# Altium footprint library WateringSystem_Library.PcbLib: 41 footprints (part 3 of 3)
Each footprint in its own frame and in the unit in brackets; x right, y up, seen from the top. Pads: shape width x height; smd on the part's side, far side on the other; paste and mask are expansions set on the pad; w line width, h text height; cw(c..) or ccw(c..) is an arc to the next point about the centre after c.
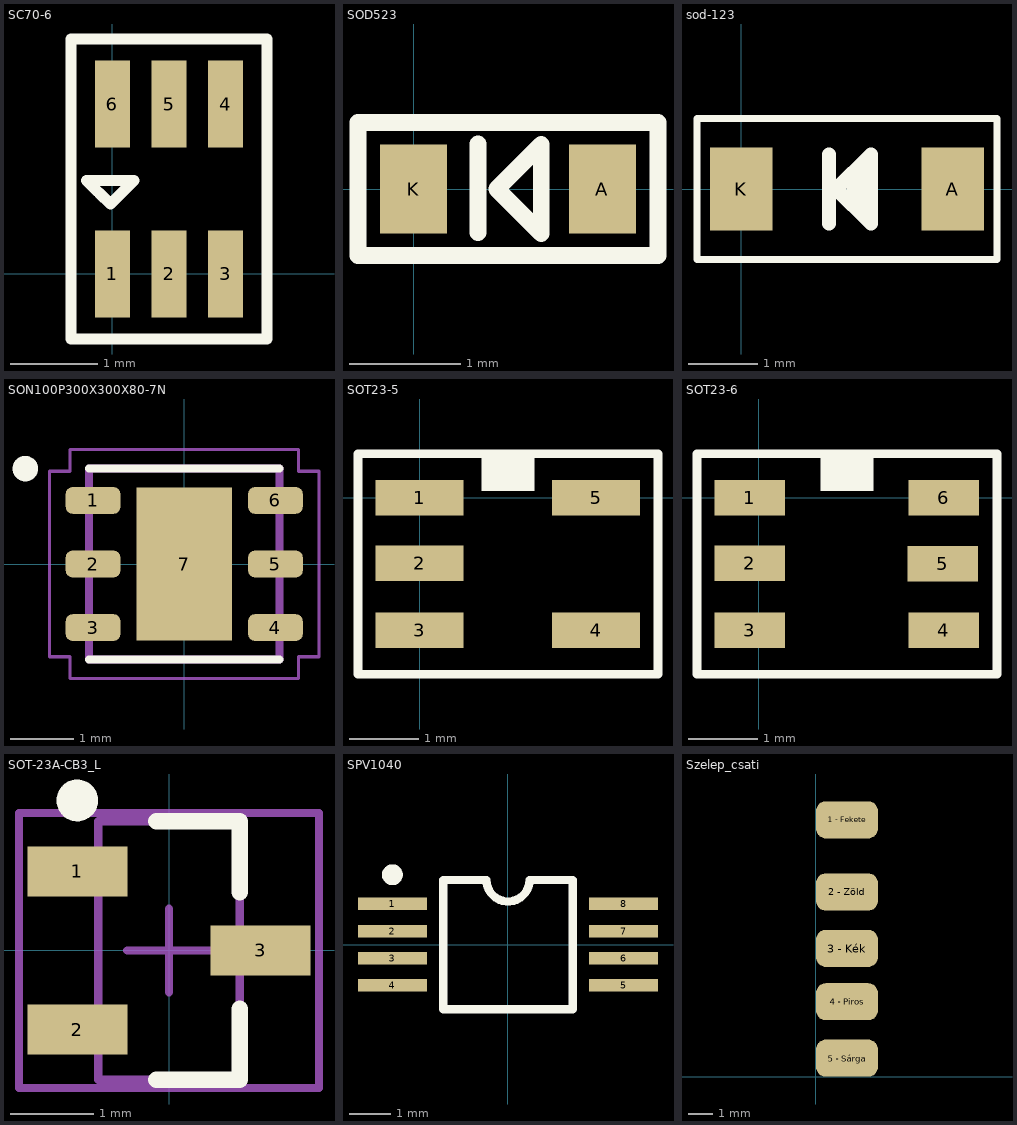
[diagram p2: the footprints below, top view; thin cyan lines are the x and y axes]

## SC70-6 [mm]
pads (6):
  rect 0.4x1 smd mask+0.05: 1(0,0) 2(0.65,0) 3(1.3,0) 4(1.3,1.95) 5(0.65,1.95) 6(0,1.95)
Top Overlay:
  lines w0.127: -0.475,-0.175 -0.475,0.975 ; -0.475,2.125 -0.475,0.975 ; -0.15,0.925 -0.025,0.8 ; 1.775,-0.175 1.775,0.975 ; 1.775,2.125 1.775,0.975 ; -0.475,0.975 -0.475,-0.75 0.65,-0.75 1.775,-0.75 1.775,0.975 ; -0.475,0.975 -0.475,2.7 0.65,2.7 1.775,2.7 1.775,0.975 ; -0.025,0.8 -0.025,0.8 ; -0.025,0.8 0.25,1.075 ; -0.025,0.8 -0.3,1.075 0.25,1.075 ; 0.25,1.075 0.25,1.075
3D body: height 1.04, standoff 1.02, extent -0.126,0.584 0.126,0.838
3D body: height 1.02, standoff 0.13, extent -0.483,0.432 1.778,1.524
3D body: height 0.25, standoff 0, extent -0.152,0 0.152,0.254
3D body: height 0.76, standoff 0, extent -0.152,0.203 0.152,0.305
3D body: height 0.76, standoff 0.51, extent -0.152,0.305 0.152,0.432
3D body: height 0.76, standoff 0.51, extent 0.508,0.305 0.813,0.432
3D body: height 0.76, standoff 0, extent 0.508,0.203 0.813,0.305
3D body: height 0.25, standoff 0, extent 0.508,0 0.813,0.254
3D body: height 0.76, standoff 0.51, extent 1.143,0.305 1.448,0.432
3D body: height 0.76, standoff 0, extent 1.143,0.203 1.448,0.305
3D body: height 0.25, standoff 0, extent 1.143,0 1.448,0.254
3D body: height 0.25, standoff 0, extent -0.152,1.702 0.152,1.956
3D body: height 0.76, standoff 0, extent -0.152,1.651 0.152,1.753
3D body: height 0.76, standoff 0.51, extent -0.152,1.524 0.152,1.651
3D body: height 0.76, standoff 0.51, extent 1.143,1.524 1.448,1.651
3D body: height 0.76, standoff 0, extent 1.143,1.651 1.448,1.753
3D body: height 0.25, standoff 0, extent 1.143,1.702 1.448,1.956
3D body: height 0.25, standoff 0, extent 0.483,1.702 0.787,1.956
3D body: height 0.76, standoff 0, extent 0.483,1.651 0.787,1.753
3D body: height 0.76, standoff 0.51, extent 0.483,1.524 0.787,1.651

## SOD523 [mm]
pads (2):
  rect 0.6x0.8 smd: A(1.7,0) K(0,0)
Top Overlay:
  lines w0.152: 0.581,-0.394 0.581,0.406 ; -0.5,-0.6 2.2,-0.6 2.2,0.6 -0.5,0.6 -0.5,-0.6 ; 0.749,0 1.149,-0.4 1.149,0.4 0.749,0
3D body: height 0.25, standoff 0, extent 1.4,-0.2 1.75,0.15
3D body: height 0.25, standoff 0, extent -0.05,-0.175 0.3,0.175
3D body: height 0.51, standoff 0, extent 0.15,-0.525 1.525,0.55
3D body: height 0.53, standoff 0.51, extent 0.275,-0.475 0.45,0.5

## sod-123 [mm]
pads (2):
  rect 0.9x1.2 smd: A(3.048,0) K(0,0)
Top Overlay:
  lines w0.102: -0.635,-1.016 -0.635,1.016 3.683,1.016 3.683,-1.016 -0.635,-1.016
  lines w0.2: 1.267,-0.5 1.267,0.5 ; 1.617,-0.15 1.617,0.15 ; 1.767,-0.3 1.767,0.3 ; 1.367,0 1.867,-0.5 1.867,0.5 1.367,0
3D body: height 0.7, standoff 0, extent 2.987,-0.225 3.112,0.275
3D body: height 0.7, standoff 0.5, extent 2.9,-0.225 3,0.275
3D body: height 0.2, standoff 0, extent 3.1,-0.225 3.3,0.275
3D body: height 0.76, standoff 0, extent 0.225,-0.875 2.9,0.875
3D body: height 0.2, standoff 0, extent -0.175,-0.25 0.025,0.25
3D body: height 0.7, standoff 0.5, extent 0.125,-0.25 0.225,0.25
3D body: height 0.7, standoff 0, extent 0.013,-0.25 0.138,0.25
3D body: height 0.79, standoff 0.74, extent 0.475,-0.75 0.6,0.75

## SON100P300X300X80-7N [mm]
pads (7):
  rrect50% 0.86x0.42 smd: 1(-1.435,1) 2(-1.435,0) 3(-1.435,-1) 4(1.435,-1) 5(1.435,0) 6(1.435,1)
  rect 1.5x2.4 smd paste-2: 7(0,0)
Top Overlay:
  circle w0.2: c-2.5,1.5 r0.1
  lines w0.127: -1.5,-1.5 1.5,-1.5 ; -1.5,1.5 1.5,1.5
Top Paste:
  region: 0.485,-1.021 -0.485,-1.021 -0.485,-0.09 0.485,-0.09
  region: 0.485,0.09 -0.486,0.09 -0.486,1.02 0.485,1.02
Mechanical 13:
  lines w0.127: -1.5,-1.5 -1.5,1.5 1.5,1.5 1.5,-1.5 -1.5,-1.5
Mechanical 15:
  lines w0.05: -2.12,-1.46 -2.12,1.46 -1.8,1.46 -1.8,1.8 1.8,1.8 1.8,1.46 2.12,1.46 2.12,-1.46 1.8,-1.46 1.8,-1.8 -1.8,-1.8 -1.8,-1.46 -2.12,-1.46

## SOT23-5 [mil]
pads (5):
  rect 50x20 smd: 1(0,0) 2(0,-37) 3(0,-75) 4(100,-75) 5(100,0)
Top Overlay:
  rectangle: 35,3.94 65,23.62
  lines w5: -34.88,11.02 -34.88,12.02 ; -34.88,15.02 -34.88,25.02 ; -20.88,25.02 -18.88,25.02 ; -19.88,25.02 -34.88,25.02 ; -34.88,25.02 -34.88,-99.98 135.12,-99.98 135.12,25.02 -34.88,25.02
3D body: height 51.18, standoff 3.94, extent 24,-95 76,20
3D body: height 8.66, standoff 0, extent 2,-8 11,8
3D body: height 24.41, standoff 0, extent 8.5,-8 17.5,8
3D body: height 24.41, standoff 15.75, extent 17,-8 24,8
3D body: height 24.41, standoff 15.75, extent 17,-45 24,-29
3D body: height 24.41, standoff 0, extent 8.5,-45 17.5,-29
3D body: height 8.66, standoff 0, extent 2,-45 11,-29
3D body: height 24.41, standoff 15.75, extent 17,-83 24,-67
3D body: height 24.41, standoff 0, extent 8.5,-83 17.5,-67
3D body: height 8.66, standoff 0, extent 2,-83 11,-67
3D body: height 24.41, standoff 15.75, extent 76,-83 83,-67
3D body: height 24.41, standoff 0, extent 82.5,-83 91.5,-67
3D body: height 8.66, standoff 0, extent 89,-83 98,-67
3D body: height 24.41, standoff 15.75, extent 76,-8 83,8
3D body: height 24.41, standoff 0, extent 82.5,-8 91.5,8
3D body: height 8.66, standoff 0, extent 89,-8 98,8
3D body: height 52.18, standoff 51.18, extent 31.02,3.02 40.98,13

## SOT23-6 [mil]
pads (6):
  rect 40x20 smd: 1(-5,0) 2(-5,-37) 3(-5,-75) 4(105,-75) 5(104.41,-37.4) 6(105,0)
Top Overlay:
  rectangle: 35.03,3.97 65.03,23.66
  lines w5: -34.88,11.02 -34.88,12.02 ; -34.88,15.02 -34.88,25.02 ; -20.88,25.02 -18.88,25.02 ; -19.88,25.02 -34.88,25.02 ; -34.88,25.02 135.12,25.02 135.12,-99.98 -34.88,-99.98 -34.88,25.02
3D body: height 52.18, standoff 51.18, extent 31.02,3.02 40.98,13
3D body: height 8.66, standoff 0, extent 89,-8 98,8
3D body: height 24.41, standoff 0, extent 82.5,-8 91.5,8
3D body: height 24.41, standoff 15.75, extent 76,-8 83,8
3D body: height 8.66, standoff 0, extent 89,-83 98,-67
3D body: height 24.41, standoff 0, extent 82.5,-83 91.5,-67
3D body: height 24.41, standoff 15.75, extent 76,-83 83,-67
3D body: height 8.66, standoff 0, extent 2,-83 11,-67
3D body: height 24.41, standoff 0, extent 8.5,-83 17.5,-67
3D body: height 24.41, standoff 15.75, extent 17,-83 24,-67
3D body: height 8.66, standoff 0, extent 2,-45 11,-29
3D body: height 24.41, standoff 0, extent 8.5,-45 17.5,-29
3D body: height 24.41, standoff 15.75, extent 17,-45 24,-29
3D body: height 24.41, standoff 15.75, extent 17,-8 24,8
3D body: height 24.41, standoff 0, extent 8.5,-8 17.5,8
3D body: height 8.66, standoff 0, extent 2,-8 11,8
3D body: height 51.18, standoff 3.94, extent 24,-95 76,20
3D body: height 24.41, standoff 15.75, extent 76,-45 83,-29
3D body: height 24.41, standoff 0, extent 82.5,-45 91.5,-29
3D body: height 8.66, standoff 0, extent 89,-45 98,-29

## SOT-23A-CB3_L [mm]
pads (3):
  rect 1.2x0.6 smd: 1(-1.1,0.95) 2(-1.1,-0.95) 3(1.1,0)
Top Overlay:
  circle w0.25: c-1.1,1.8 r0.125
  lines w0.2: -0.15,-1.55 0.85,-1.55 0.85,-0.7 ; -0.15,1.55 0.85,1.55 0.85,0.7
Mechanical 13:
  lines w0.1: -0.85,-1.55 -0.85,1.55 0.85,1.55 0.85,-1.55 -0.85,-1.55
Mechanical 15:
  lines w0.1: -0.5,0 0.5,0 ; 0,-0.5 0,0.5 ; -1.8,-1.65 -1.8,1.65 1.8,1.65 1.8,-1.65 -1.8,-1.65
3D body: height 1.45, standoff 0, extent -0.85,-1.55 0.85,1.55

## SPV1040 [mm]
pads (8):
  rect 1.65x0.3 smd: 1(-2.775,0.975) 2(-2.775,0.325) 3(-2.775,-0.325) 4(-2.775,-0.975) 5(2.775,-0.975) 6(2.775,-0.325) 7(2.775,0.325) 8(2.775,0.975)
Top Overlay:
  circle w0.25: c-2.775,1.675 r0.125
  lines w0.2: -1.55,-1.55 1.55,-1.55 1.55,1.55 0.517,1.55 cw(c0,1.55) -0.517,1.55 -1.55,1.55 -1.55,-1.55

## Szelep_csati [mm]
pads (5):
  rrect50% 2.5x1.5 smd: "1 - Fekete"(1.27,10.414) "2 - Zöld"(1.27,7.493) "3 - Kék"(1.27,5.207) "4 - Piros"(1.27,3.048) "5 - Sárga"(1.27,0.762)